# Altium footprint library LSM6DSMTR.PcbLib: 1 footprints
Each footprint in its own frame and in the unit in brackets; x right, y up, seen from the top. Pads: shape width x height; smd on the part's side, far side on the other; paste and mask are expansions set on the pad; w line width, h text height; cw(c..) or ccw(c..) is an arc to the next point about the centre after c.
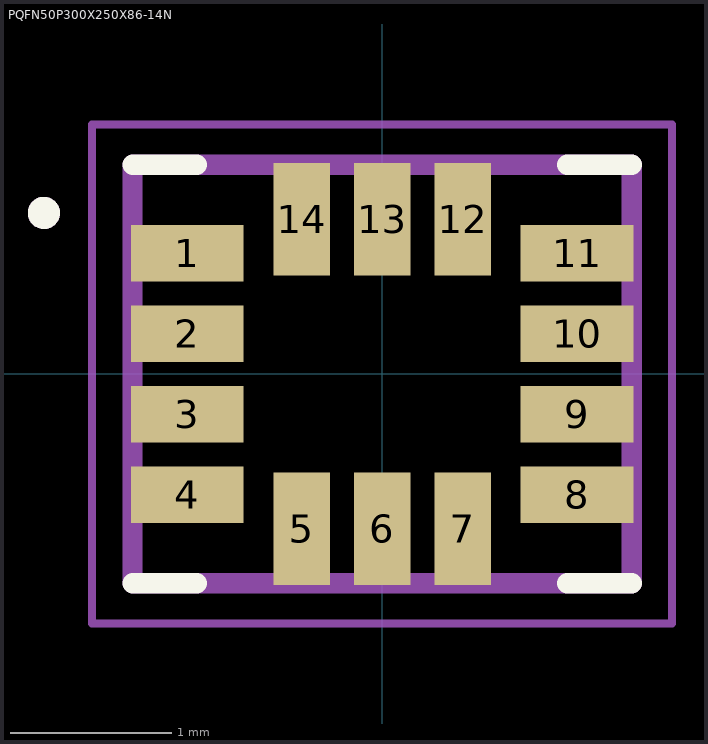
[diagram p0: the footprint, top view; thin cyan lines are the x and y axes]

## PQFN50P300X250X86-14N [mm]
pads (14):
  rect 0.7x0.35 smd: 1(-1.21,0.75) 2(-1.21,0.25) 3(-1.21,-0.25) 4(-1.21,-0.75) 8(1.21,-0.75) 9(1.21,-0.25) 10(1.21,0.25) 11(1.21,0.75)
  rect 0.35x0.7 smd: 5(-0.5,-0.96) 6(0,-0.96) 7(0.5,-0.96) 12(0.5,0.96) 13(0,0.96) 14(-0.5,0.96)
Top Overlay:
  circle w0.1: c-2.1,1 r0.05
  lines w0.127: -1.55,-1.3 -1.15,-1.3 ; -1.55,1.3 -1.15,1.3 ; 1.15,-1.3 1.55,-1.3 ; 1.15,1.3 1.55,1.3
Mechanical 13:
  circle w0.1: c-2.1,1 r0.05
  lines w0.127: -1.55,-1.3 -1.55,1.3 1.55,1.3 1.55,-1.3 -1.55,-1.3
Mechanical 15:
  lines w0.05: -1.8,-1.55 1.8,-1.55 1.8,1.55 -1.8,1.55 -1.8,-1.55
3D body "LSM6DSMTR--3DModel-STEP-56544.STEP": height 0.86, standoff 0, extent -1.5,-1.25 1.5,1.25